# EAGLE library part TLP293-4 (library MCE_CircuitosIntegrados)
TOSHIBA PHOTOCOUPLER IRED & PHOTO-TRANSISTOR
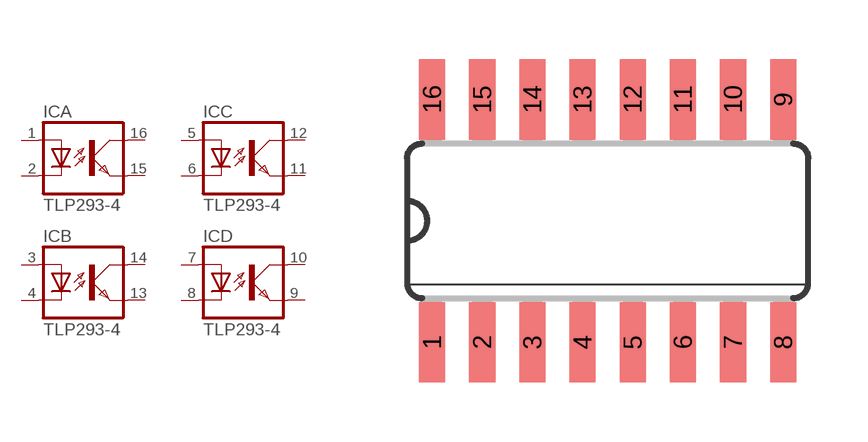
[diagram p17: symbol with the pads of SOIC16; footprint SOIC16]

Designator prefix IC; gates A=OK-CC B=OK-CC C=OK-CC D=OK-CC

## TLP293-4  [SOIC16]
1  A:A  pas
2  A:C  pas
3  B:A  pas
4  B:C  pas
5  C:A  pas
6  C:C  pas
7  D:A  pas
8  D:C  pas
9  D:EMIT  pas
10  D:COL  pas
11  C:EMIT  pas
12  C:COL  pas
13  B:EMIT  pas
14  B:COL  pas
15  A:EMIT  pas
16  A:COL  pas

## Footprint SOIC16 (pad centres in mm)
smd 0.66 x 2.032: 1 -4.216,-3.15; 2 -2.946,-3.15; 3 -1.676,-3.15; 4 -0.406,-3.15; 5 0.864,-3.15; 6 2.134,-3.15; 7 3.404,-3.15; 8 4.674,-3.15; 9 4.674,2.997; 10 3.404,2.997; 11 2.134,2.997; 12 0.864,2.997; 13 -0.406,2.997; 14 -1.676,2.997; 15 -2.946,2.997; 16 -4.216,2.997